# Altium schematic symbol library TESTPOINT.SchLib: 1 symbol
Pins are listed as number, name and electrical type; pins without a type are passive.

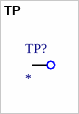
[diagram p0: symbol TP]

## TP
designator TP?
Test Point
footprint TESTPOINT (Test Point)
pins: 1